# Altium schematic symbol library Hardware.SchLib: 9 symbols
Pins are listed as number, name and electrical type; pins without a type are passive.

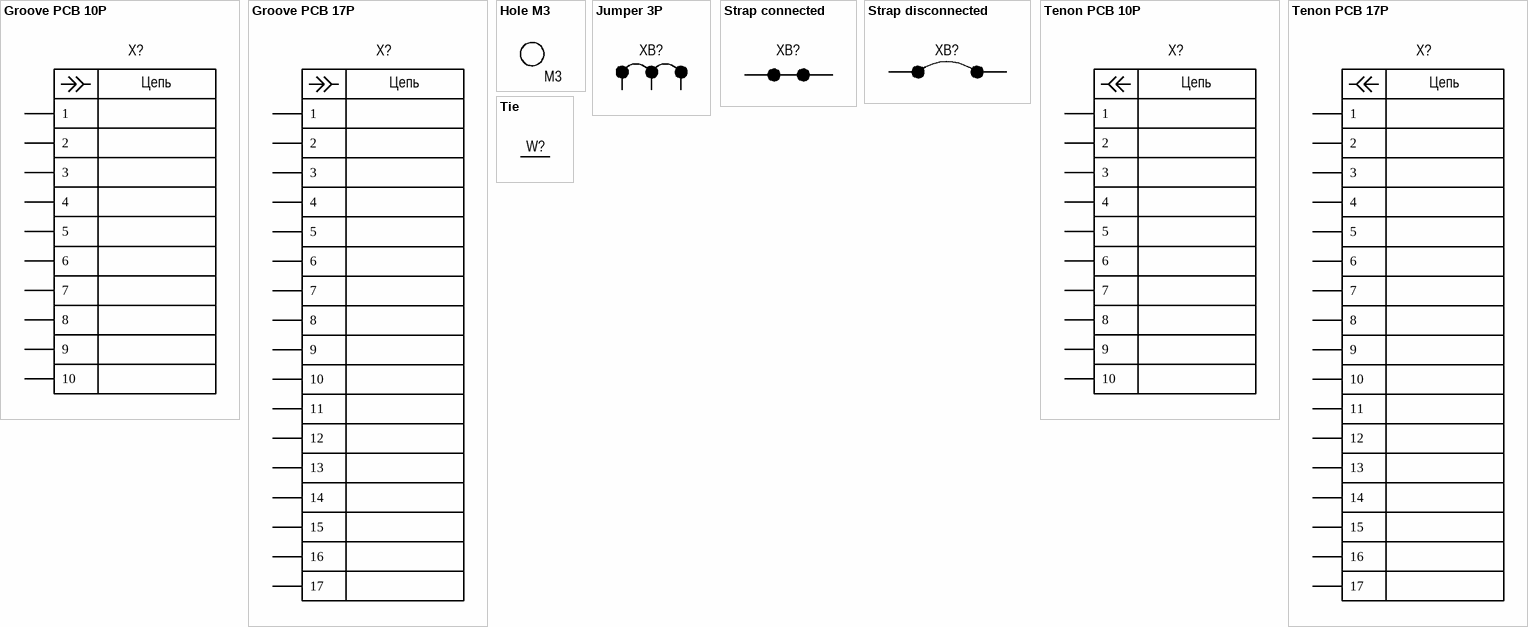
[diagram p0: symbols Groove PCB 10P to Tie]

## Groove PCB 10P
designator X?  (value not drawn)  (no BOM)
PCB connector Groove, 10p; Group: Mechanical; Component: Hardware Board; Height: 0.00mm; Mounting type: Board
footprint Groove PCB 10P (Groove PCB connection)
pins: 1, 2, 3, 4, 5, 6, 7, 8, 9, 10
text: Цепь

## Groove PCB 17P
designator X?  (value not drawn)  (no BOM)
PCB connector Groove, 17p; Group: Mechanical; Component: Hardware Board; Height: 0.00mm; Mounting type: Board
footprint Groove PCB 17P (Groove PCB connection)
pins: 1, 2, 3, 4, 5, 6, 7, 8, 9, 10, 11, 12, 13, 14, 15, 16, 17
text: Цепь

## Hole M3
designator Hole?, comment M3  (no BOM)
Hole M3; Component: Hardware Board; Group: Mechanical; Height: 0.00mm; Mounting type: Board
footprint Hole M3
pins: 1

## Jumper 3P
designator XB?  (no BOM)
Jumper 3P; Group: Ceramic Resistors; Component: Hardware Board; Package: 1206 (3216); Dimension: 5.00mm x 2.50mm; Height: 0.85mm; Mounting type: Surface mount
footprint Jumper 3P 2012 disconnected
pins: 1, 2, 3

## Strap connected
designator XB?, comment Strap  (value not drawn)  (no BOM)
Component: Hardware Board; Group: Mechanical; Height: 0.00mm; Mounting type: Board
footprint Strap 2012 connected 0.25mm (Strap 0.25mm 2012 connected)
footprint Strap 2012 connected 0.5mm
footprint Strap 2012 connected 1mm
pins: 1, 2

## Strap disconnected
designator XB?  (no BOM)
Strap disconnected; Group: Ceramic Resistors; Component: Hardware Board; Package: 1206 (3216); Dimension: 5.00mm x 2.50mm; Height: 0.85mm; Mounting type: Surface mount
footprint Strap 2012 disconnected
footprint RESC2012N_NM (Chip Resistor, Body 2.0x1.2mm, IPC High Density)
footprint RESC1608N NM (Chip Resistor, Body 1.6x0.8mm, IPC High Density)
pins: 1, 2

## Tenon PCB 10P
designator X?  (value not drawn)  (no BOM)
PCB connector Tenon, 10p; Group: Mechanical; Component: Hardware Board; Height: 0.00mm; Mounting type: Board
footprint Tenon PCB 10P (Tenon PCB connection)
pins: 1, 2, 3, 4, 5, 6, 7, 8, 9, 10
text: Цепь

## Tenon PCB 17P
designator X?  (value not drawn)  (no BOM)
PCB connector Tenon, 17p; Group: Mechanical; Component: Hardware Board; Height: 0.00mm; Mounting type: Board
footprint Tenon PCB 17P (Tenon PCB connection)
pins: 1, 2, 3, 4, 5, 6, 7, 8, 9, 10, 11, 12, 13, 14, 15, 16, 17
text: Цепь

## Tie
designator W?  (value not drawn)  (net tie, no BOM)
Component: Hardware Board; Group: Mechanical; Height: 0.00mm; Mounting type: Board
footprint Tie line 0.25
footprint Tie point 0.25
footprint Tie line 0.5
footprint Tie point 0.5
footprint Tie line 1.0
footprint Tie point 1.0
footprint Tie line 0.15
footprint Tie point 0.15
footprint Tie line 0.3
footprint Tie point 0.3
footprint Tie line 2.0
footprint Tie point 2.0
footprint Tie line 3.0
footprint Tie point 3.0
pins: 1, 2